# Altium footprint library JMPKG.PcbLib: 337 footprints (part 20 of 22)
Each footprint in its own frame and in the unit in brackets; x right, y up, seen from the top. Pads: shape width x height; smd on the part's side, far side on the other; paste and mask are expansions set on the pad; w line width, h text height; cw(c..) or ccw(c..) is an arc to the next point about the centre after c.
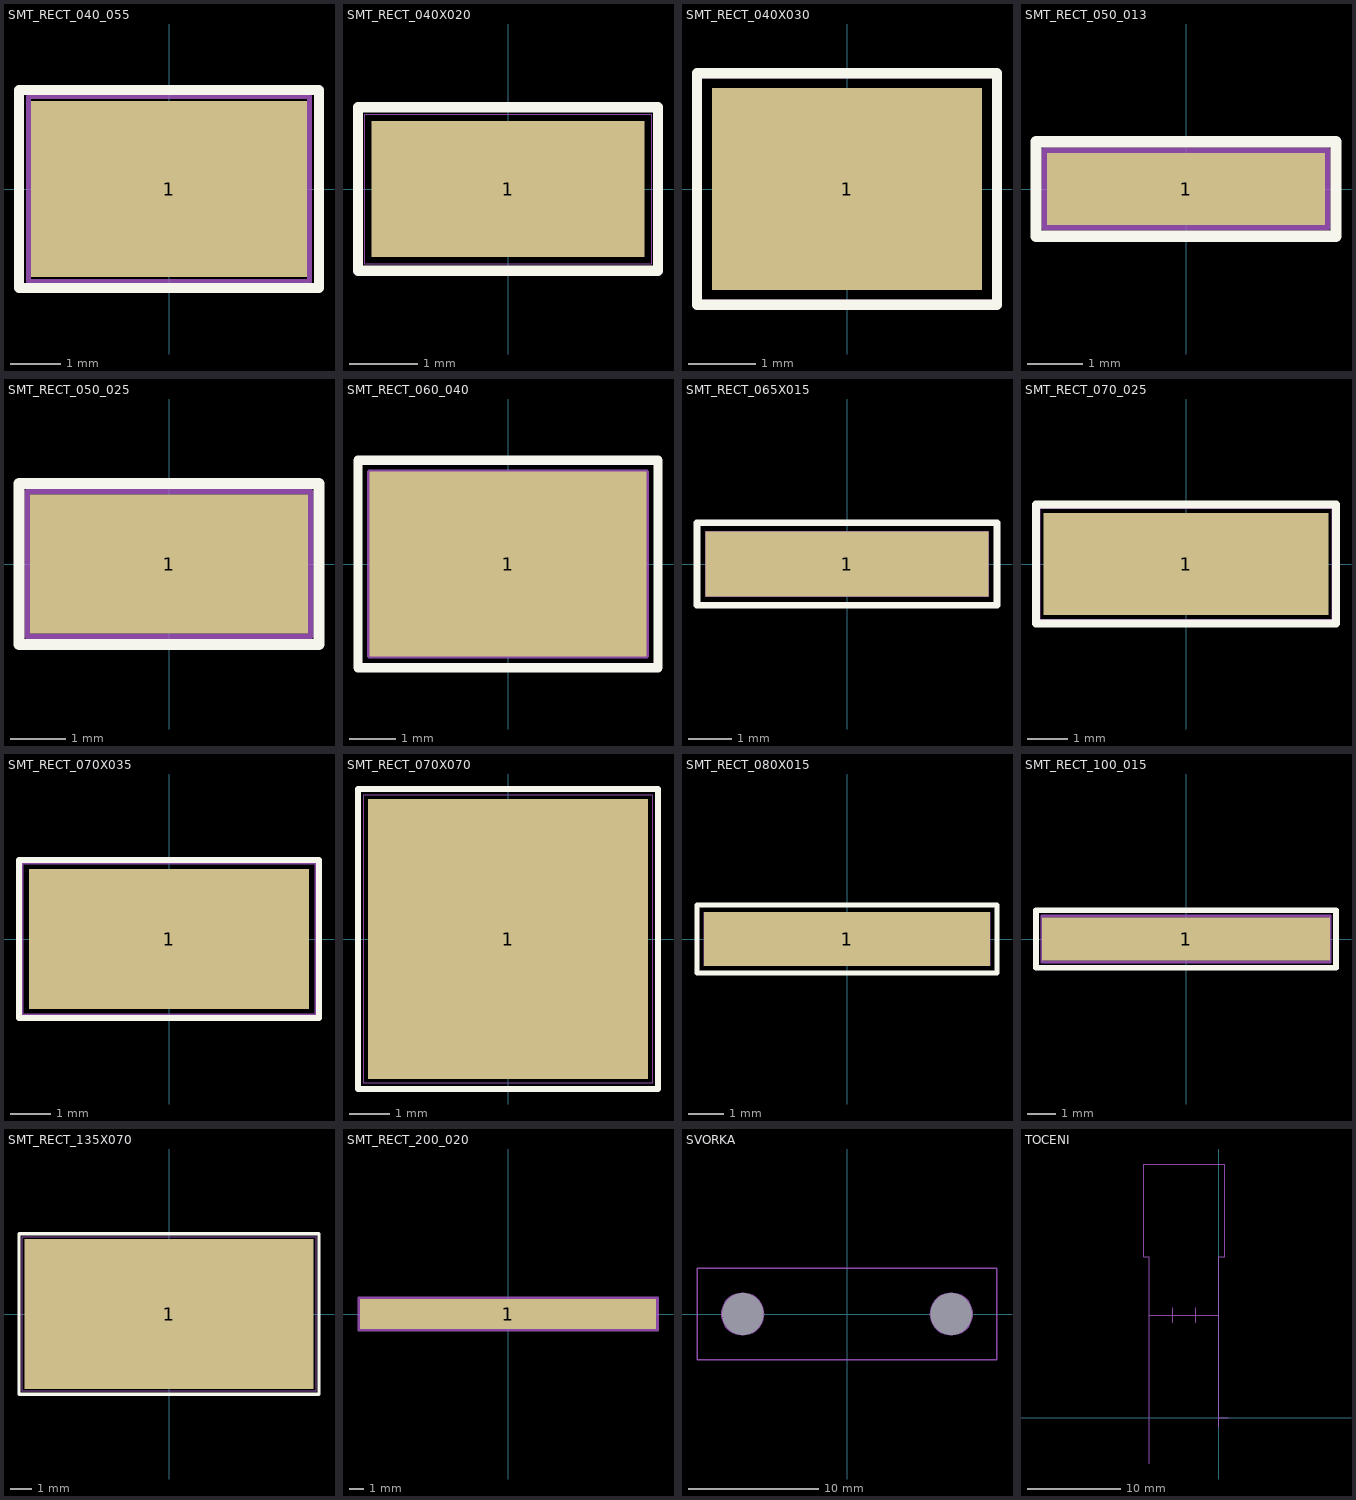
[diagram p19: the footprints below, top view; thin cyan lines are the x and y axes]

## SMT_RECT_040_055 [mm]
pads (1):
  rect 5.5x3.5 smd mask+0.1: 1(0,0)
Top Overlay:
  lines w0.2: -2.984,-1.968 2.984,-1.968 2.984,1.968 -2.984,1.968 -2.984,-1.968
Mechanical 15:
  lines w0.1: -2.794,-1.841 2.794,-1.841 2.794,1.841 -2.794,1.841 -2.794,-1.841
Multi-Layer:
  text "Value" at -1.108,-1.25 h0.75

## SMT_RECT_040X020 [mm]
pads (1):
  rect 4x2 smd mask+0.05: 1(0,0)
Top Overlay:
  lines w0.15: -2.2,-1.2 2.2,-1.2 2.2,1.2 -2.2,1.2 -2.2,-1.2
Mechanical 15:
  lines w0.01: -2.1,-1.1 2.1,-1.1 2.1,1.1 -2.1,1.1 -2.1,-1.1
Multi-Layer:
  text "Value" at -1.043,-0.705 h0.6
  text "Value" at -1.088,-0.775 h0.6
Mechanical 20:
  lines w0.01: -2.2,-1.2 2.2,-1.2 2.2,1.2 -2.2,1.2 -2.2,-1.2

## SMT_RECT_040X030 [mm]
pads (1):
  rect 4x3 smd mask+0.05: 1(0,0)
Top Overlay:
  lines w0.15: -2.222,-1.714 2.222,-1.714 2.222,1.714 -2.222,1.714 -2.222,-1.714
Mechanical 15:
  lines w0.01: -2.159,-1.651 2.159,-1.651 2.159,1.651 -2.159,1.651 -2.159,-1.651
Multi-Layer:
  text "Value" at -0.816,-1.13 h0.6
Mechanical 20:
  lines w0.01: -2.222,-1.714 2.222,-1.714 2.222,1.714 -2.222,1.714 -2.222,-1.714

## SMT_RECT_050_013 [mm]
pads (1):
  rect 5x1.3 smd mask+0.05: 1(0,0)
Top Overlay:
  lines w0.2: -2.7,-0.85 2.7,-0.85 2.7,0.85 -2.7,0.85 -2.7,-0.85
Mechanical 15:
  lines w0.1: -2.55,-0.7 2.55,-0.7 2.55,0.7 -2.55,0.7 -2.55,-0.7
Multi-Layer:
  text "Value" at -1.108,-1.25 h0.75
Mechanical 20:
  lines w0.1: -2.7,-0.85 2.7,-0.85 2.7,0.85 -2.7,0.85 -2.7,-0.85

## SMT_RECT_050_025 [mm]
pads (1):
  rect 5x2.5 smd mask+0.05: 1(0,0)
Top Overlay:
  lines w0.2: -2.7,-1.45 2.7,-1.45 2.7,1.45 -2.7,1.45 -2.7,-1.45
Mechanical 15:
  lines w0.1: -2.55,-1.3 2.55,-1.3 2.55,1.3 -2.55,1.3 -2.55,-1.3
Multi-Layer:
  text "Value" at -1.108,-1.25 h0.75
Mechanical 20:
  lines w0.1: -2.7,-1.45 2.7,-1.45 2.7,1.45 -2.7,1.45 -2.7,-1.45

## SMT_RECT_060_040 [mm]
pads (1):
  rect 6x4 smd mask+0.05: 1(0,0)
Top Overlay:
  lines w0.2: -3.25,-2.25 3.25,-2.25 3.25,2.25 -3.25,2.25 -3.25,-2.25
Mechanical 15:
  lines w0.1: -3,-2 3,-2 3,2 -3,2 -3,-2
Mechanical 20:
  lines w0.1: -3.25,-2.25 3.25,-2.25 3.25,2.25 -3.25,2.25 -3.25,-2.25

## SMT_RECT_065X015 [mm]
pads (1):
  rect 6.5x1.5 smd mask+0.05: 1(0,0)
Top Overlay:
  lines w0.15: -3.45,-0.95 3.45,-0.95 3.45,0.95 -3.45,0.95 -3.45,-0.95
Mechanical 15:
  lines w0.01: -3.25,-0.75 3.25,-0.75 3.25,0.75 -3.25,0.75 -3.25,-0.75
Mechanical 20:
  lines w0.01: -3.45,-0.95 3.45,-0.95 3.45,0.95 -3.45,0.95 -3.45,-0.95

## SMT_RECT_070_025 [mm]
pads (1):
  rect 7x2.5 smd mask+0.05: 1(0,0)
Top Overlay:
  lines w0.2: -3.683,-1.46 3.683,-1.46 3.683,1.46 -3.683,1.46 -3.683,-1.46
Mechanical 15:
  lines w0.1: -3.619,-1.397 3.619,-1.397 3.619,1.397 -3.619,1.397 -3.619,-1.397
Mechanical 20:
  lines w0.1: -3.683,-1.46 3.683,-1.46 3.683,1.46 -3.683,1.46 -3.683,-1.46

## SMT_RECT_070X035 [mm]
pads (1):
  rect 7x3.5 smd mask+0.05: 1(0,0)
Top Overlay:
  lines w0.15: -3.746,-1.968 3.746,-1.968 3.746,1.968 -3.746,1.968 -3.746,-1.968
Mechanical 15:
  lines w0.1: -3.683,-1.905 3.683,-1.905 3.683,1.905 -3.683,1.905 -3.683,-1.905
Mechanical 20:
  lines w0.1: -3.746,-1.968 3.746,-1.968 3.746,1.968 -3.746,1.968 -3.746,-1.968

## SMT_RECT_070X070 [mm]
pads (1):
  rrect0% 7x7 smd mask+0.05: 1(0,0)
Top Overlay:
  lines w0.15: -3.746,-3.746 3.746,-3.746 3.746,3.746 -3.746,3.746 -3.746,-3.746
Mechanical 15:
  lines w0.01: -3.6,-3.6 3.6,-3.6 3.6,3.6 -3.6,3.6 -3.6,-3.6
Multi-Layer:
  text "Value" at -0.816,-1.13 h0.6
Mechanical 20:
  lines w0.01: -3.746,-3.746 3.746,-3.746 3.746,3.746 -3.746,3.746 -3.746,-3.746

## SMT_RECT_080X015 [mm]
pads (1):
  rect 8x1.5 smd mask+0.05: 1(0,0)
Top Overlay:
  lines w0.15: -4.2,-0.95 4.2,-0.95 4.2,0.95 -4.2,0.95 -4.2,-0.95
Mechanical 15:
  lines w0.01: -4,-0.75 4,-0.75 4,0.75 -4,0.75 -4,-0.75
Multi-Layer:
  text "Value" at -1.038,-0.955 h0.6
Mechanical 20:
  lines w0.01: -4.2,-0.95 4.2,-0.95 4.2,0.95 -4.2,0.95 -4.2,-0.95

## SMT_RECT_100_015 [mm]
pads (1):
  rect 10x1.5 smd mask+0.05: 1(0,0)
Top Overlay:
  lines w0.2: -5.2,-1 5.2,-1 5.2,1 -5.2,1 -5.2,-1
Mechanical 15:
  lines w0.1: -5,-0.8 5,-0.8 5,0.8 -5,0.8 -5,-0.8
Mechanical 20:
  lines w0.1: -5.2,-1 5.2,-1 5.2,1 -5.2,1 -5.2,-1

## SMT_RECT_135X070 [mm]
pads (1):
  rect 13.5x7 smd mask+0.05: 1(0,0)
Top Overlay:
  lines w0.15: -7,-3.746 7,-3.746 7,3.746 -7,3.746 -7,-3.746
Mechanical 15:
  lines w0.01: -6.85,-3.6 6.85,-3.6 6.85,3.6 -6.85,3.6 -6.85,-3.6
Mechanical 20:
  lines w0.01: -7,-3.746 7,-3.746 7,3.746 -7,3.746 -7,-3.746

## SMT_RECT_200_020 [mm]
pads (1):
  rect 20x2 smd: 1(0,0)
Mechanical 15:
  lines w0.1: -10.05,-1.05 10.05,-1.05 10.05,1.05 -10.05,1.05 -10.05,-1.05
Mechanical 20:
  lines w0.1: -10.15,-1.15 10.15,-1.15 10.15,1.15 -10.15,1.15 -10.15,-1.15

## SVORKA [mm]
pads (2):
  round 0 hole 3.2 unplated: 1(-8,0) 2(8,0)
Mechanical 15:
  circle w0.1: c8,0 r1.6
  circle w0.1: c-8,0 r1.6
  lines w0.1: -11.5,-3.5 -11.5,3.5 11.5,3.5 11.5,-3.5 -11.5,-3.5
Mechanical 16:
  circle w0.1: c8,0 r1.6
  circle w0.1: c-8,0 r1.6

## TOCENI [mm]
Mechanical 19:
  lines w0.1: -7.5,-5 -7.5,17.3 -8.1,17.3 -8.1,27.3 0.6,27.3 0.6,17.3 0,17.3 0,0 ; -7.5,11 0,11 ; -5,10.2 -5,11.8 ; -2.5,10.2 -2.5,11.8 ; 0,-1 0,0 ; 1,0 0,0